# EAGLE library part MIC23030 (library Microchip)
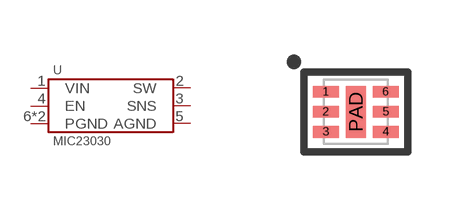
[diagram p27: symbol with the pads of UFDFN-6-1.6X1.6; footprint UFDFN-6-1.6X1.6]

Designator prefix U

## MIC23030-GYMT-TR  [UFDFN-6-1.6X1.6]
1  VIN
2  SW
3  SNS
4  EN
5  AGND
6  PGND
PAD  PGND

## Footprint UFDFN-6-1.6X1.6 (pad centres in mm)
smd 0.65 x 0.3: 1 -0.75,0.5; 2 -0.75,0; 3 -0.75,-0.5; 4 0.75,-0.5; 5 0.75,0; 6 0.75,0.5
smd 0.5 x 1.3: PAD 0,0